# EAGLE library part MPU-6050 (library zz-upenn 2)
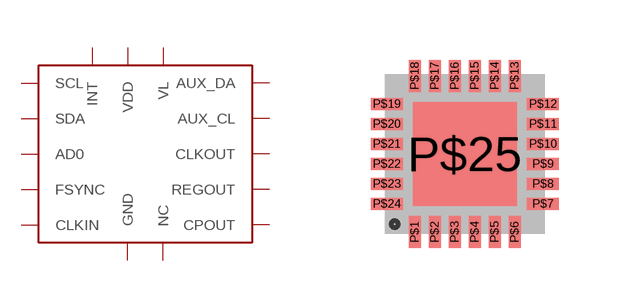
[diagram p23: symbol with the pads of QFN24; footprint QFN24]

Designator prefix -

## MPU-6050  [QFN24]
P$1  CLKIN  in
P$2  NC
P$3  NC
P$4  NC
P$5  NC
P$6  AUX_DA
P$7  AUX_CL
P$8  VL  pwr
P$9  AD0  in
P$10  REGOUT  pwr
P$11  FSYNC  in
P$12  INT  out
P$13  VDD  pwr
P$14  NC
P$15  NC
P$16  NC
P$17  NC
P$18  GND  pwr
P$20  CPOUT  pwr
P$22  CLKOUT  out
P$23  SCL  in
P$24  SDA
P$25  GND  pwr

## Footprint QFN24 (pad centres in mm)
smd 0.3 x 0.8: P$1 -1.25,-1.955; P$2 -0.75,-1.955; P$3 -0.25,-1.955; P$4 0.25,-1.955; P$5 0.75,-1.955; P$6 1.25,-1.955; P$13 1.25,1.955; P$14 0.75,1.955; P$15 0.25,1.955; P$16 -0.25,1.955; P$17 -0.75,1.955; P$18 -1.25,1.955
smd 0.8 x 0.3: P$7 1.955,-1.25; P$8 1.955,-0.75; P$9 1.955,-0.25; P$10 1.955,0.25; P$11 1.955,0.75; P$12 1.955,1.25; P$19 -1.955,1.25; P$20 -1.955,0.75; P$21 -1.955,0.25; P$22 -1.955,-0.25; P$23 -1.955,-0.75; P$24 -1.955,-1.25
smd 2.6 x 2.6: P$25 0,0